# EAGLE library part MOLEX-91228-3001 (library SamacSys_Parts)
6 way SMT SIM card reader w/ejector 6 way SMT SIM card reader w/ejector Source: Datasheet <https://componentsearchengine.com/Datasheets/1/91228-3001.pdf>
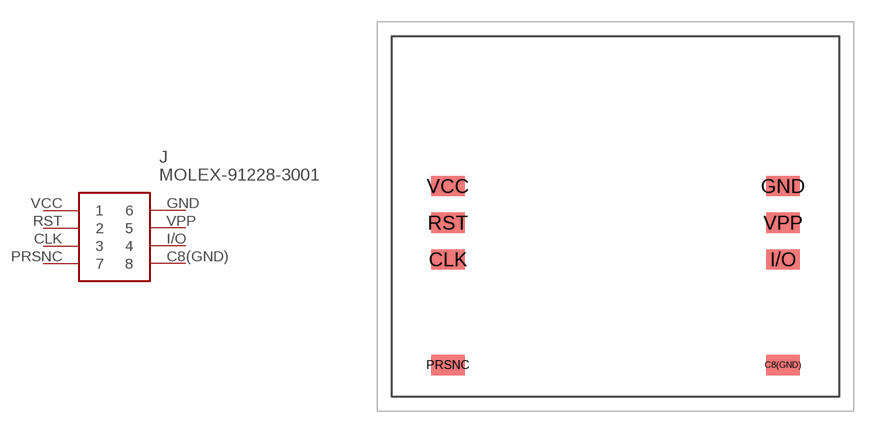
[diagram p1: symbol with the pads of MOLEX-912283001; footprint MOLEX-912283001]

Designator prefix J

## MOLEX-91228-3001 (DESCRIPTION: 6 way SMT SIM card reader w/ejector 6 way SMT SIM card reader w/ejector; HEIGHT: 3mm; MANUFACTURER_NAME: Molex; MANUFACTURER_PART_NUMBER: 91228-3001; MOUSER_PART_NUMBER: 538-91228-3001; MOUSER_PRICE-STOCK: https://www.mouser.com/Search/Refine.aspx?Keyword=538-91228-3001)  [MOLEX-912283001]
C8(GND)  8
CLK  3
GND  6
I/O  4
PRSNC  7
RST  2
VCC  1
VPP  5

## Footprint MOLEX-912283001 (pad centres in mm)
91228-3001
smd 2.3 x 1.4: C8(GND) 11.6,-10.3; CLK -11.6,-2.98; GND 11.6,2.1; I/O 11.6,-2.98; PRSNC -11.6,-10.3; RST -11.6,-0.44; VCC -11.6,2.1; VPP 11.6,-0.44